# Altium integrated library NSC Interface.IntLib: 1288 symbols (part 2 of 45)
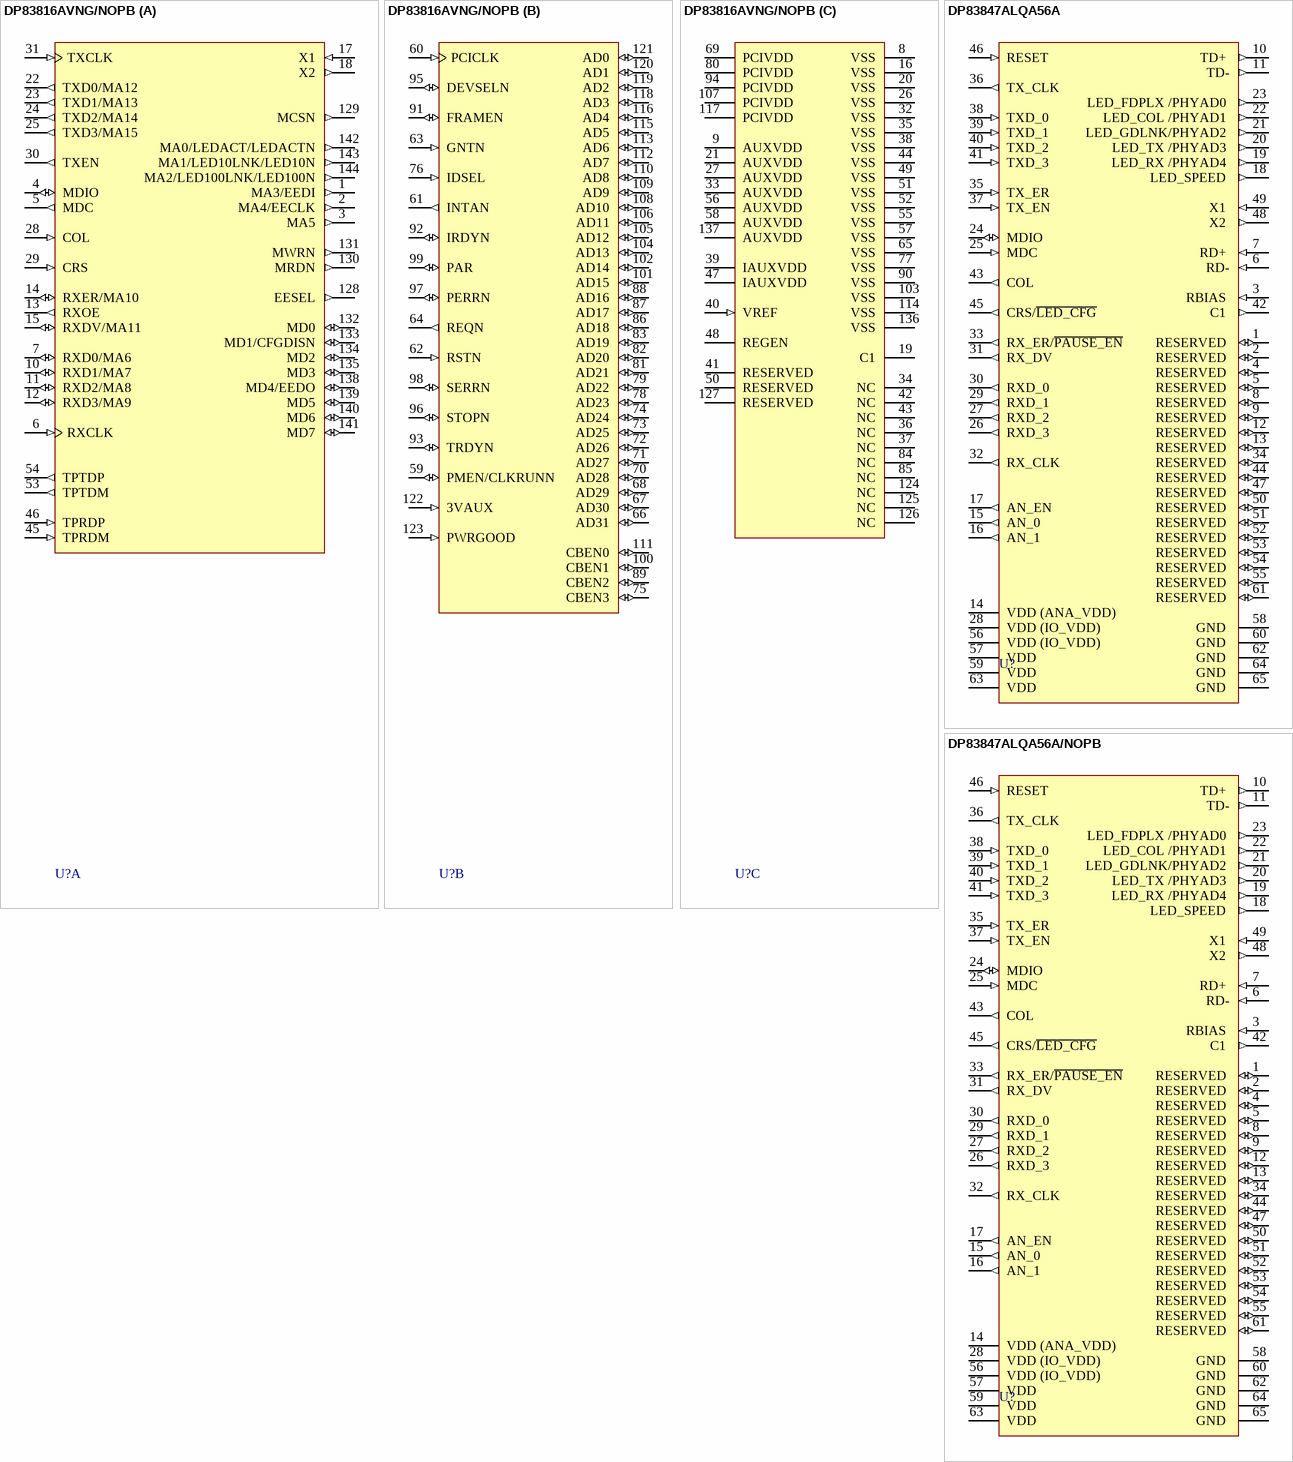
[diagram p113: symbols DP83816AVNG/NOPB to DP83847ALQA56A/NOPB]

## DP83816AVNG/NOPB
designator U?
10/100 Mb/s Integrated PCI Ethernet Media Access Controller and Physical Layer (MacPhyter-II), 144-pin LQFP, Pb-Free; PartNumber: DP83816AVNG/NOPB; Manufacturer: National Semiconductor; PackageTopMarking: NSUZXYYTTE#*DP83816AVNG; PowerWise: N; CompType: Interface IC; Published: 1-Mar-2010; DatasheetVersion: Sep-2005; PackageVersion: revF, Nov-1999; PackageReference: VNG144A; Publisher: Altium Limited; PackageDescription: LQFP, Jedec, Metric, 20 x 20 x 1.4mm, 144 Lead; Supplier 1: Digi-Key; Supplier Part Number 1: DP83816AVNG-ND; Supplier 2: Farnell; Supplier Part Number 2: 1496006; RoHS: Y; PinCount: 144; Code_JEDEC: MS-026-BFB; ComponentLink1Description: DP83816 Datasheet; ComponentLink1URL: http://www.national.com/ds/DP/DP83816.pdf; ComponentLink2Description: DP83816 Web Page; ComponentLink2URL: http://www.national.com/pf/DP/DP83816.html; ComponentLink3Description: VNG144A Package Page; ComponentLink3URL: http://www.national.com/packaging/folders/vng144a.html
footprint VNG144A_N (Thin QFP, 144-Leads, Body 20x20mm, Pitch 0.5mm, IPC Medium Density)
footprint VNG144A_L (Thin QFP, 144-Leads, Body 20x20mm, Pitch 0.5mm, IPC High Density)
footprint VNG144A_M (Thin QFP, 144-Leads, Body 20x20mm, Pitch 0.5mm, IPC Low Density)
part A pins: 1 MA3/EEDI (out), 2 MA4/EECLK (out), 3 MA5 (out), 4 MDIO (io), 5 MDC (out), 6 RXCLK (in), 7 RXD0/MA6 (io), 10 RXD1/MA7 (io), 11 RXD2/MA8 (io), 12 RXD3/MA9 (io), 13 RXOE (out), 14 RXER/MA10 (io), 15 RXDV/MA11 (io), 17 X1 (in), 18 X2 (out), 22 TXD0/MA12 (out), 23 TXD1/MA13 (out), 24 TXD2/MA14 (out), 25 TXD3/MA15 (out), 28 COL (in), 29 CRS (in), 30 TXEN (out), 31 TXCLK (in), 45 TPRDM (in), 46 TPRDP (in), 53 TPTDM (out), 54 TPTDP (out), 128 EESEL (out), 129 MCSN (out), 130 MRDN (out), 131 MWRN (out), 132 MD0 (io), 133 MD1/CFGDISN (io), 134 MD2 (io), 135 MD3 (io), 138 MD4/EEDO (io), 139 MD5 (io), 140 MD6 (io), 141 MD7 (io), 142 MA0/LEDACT/LEDACTN (out), 143 MA1/LED10LNK/LED10N (out), 144 MA2/LED100LNK/LED100N (out)
part B pins: 59 PMEN/CLKRUNN (io), 60 PCICLK (in), 61 INTAN (out), 62 RSTN (in), 63 GNTN (in), 64 REQN (out), 66 AD31 (io), 67 AD30 (io), 68 AD29 (io), 70 AD28 (io), 71 AD27 (io), 72 AD26 (io), 73 AD25 (io), 74 AD24 (io), 75 CBEN3 (io), 76 IDSEL (in), 78 AD23 (io), 79 AD22 (io), 81 AD21 (io), 82 AD20 (io), 83 AD19 (io), 86 AD18 (io), 87 AD17 (io), 88 AD16 (io), 89 CBEN2 (io), 91 FRAMEN (io), 92 IRDYN (io), 93 TRDYN (io), 95 DEVSELN (io), 96 STOPN (io), 97 PERRN (io), 98 SERRN (io), 99 PAR (io), 100 CBEN1 (io), 101 AD15 (io), 102 AD14 (io), 104 AD13 (io), 105 AD12 (io), 106 AD11 (io), 108 AD10 (io), 109 AD9 (io), 110 AD8 (io), 111 CBEN0 (io), 112 AD7 (io), 113 AD6 (io), 115 AD5 (io), 116 AD4 (io), 118 AD3 (io), 119 AD2 (io), 120 AD1 (io), 121 AD0 (io), 122 3VAUX (in), 123 PWRGOOD (in)
part C pins: 8 VSS (power), 9 AUXVDD (power), 16 VSS (power), 19 C1 (power), 20 VSS (power), 21 AUXVDD (power), 26 VSS (power), 27 AUXVDD (power), 32 VSS (power), 33 AUXVDD (power), 34 NC, 35 VSS (power), 36 NC, 37 NC, 38 VSS (power), 39 IAUXVDD (power), 40 VREF (in), 41 RESERVED, 42 NC, 43 NC, 44 VSS (power), 47 IAUXVDD (power), 48 REGEN, 49 VSS (power), 50 RESERVED, 51 VSS (power), 52 VSS (power), 55 VSS (power), 56 AUXVDD (power), 57 VSS (power), 58 AUXVDD (power), 65 VSS (power), 69 PCIVDD (power), 77 VSS (power), 80 PCIVDD (power), 84 NC, 85 NC, 90 VSS (power), 94 PCIVDD (power), 103 VSS (power), 107 PCIVDD (power), 114 VSS (power), 117 PCIVDD (power), 124 NC, 125 NC, 126 NC, 127 RESERVED, 136 VSS (power), 137 AUXVDD (power)

## DP83847ALQA56A
designator U?
DsPHYTER® II - Single 10/100 Ethernet Transceiver, 56-pin LLP; PartNumber: DP83847ALQA56A; Manufacturer: National Semiconductor; PackageTopMarking: NS*UZXYTTE#*83847; PowerWise: N; CompType: Interface IC; Published: 4-Dec-2008; DatasheetVersion: Feb-2002; PackageVersion: revD, Nov-2002; PackageReference: LQA56A; Publisher: Altium Limited; PackageDescription: LLP, Plastic, Quad, 9 x 9 x 0.75mm Body, 56 Lead, 0.5mm Pitch, Ground & Power Rings; Supplier 1: Farnell; Supplier Part Number 1: 1528404; Supplier 2: Farnell; Supplier Part Number 2: 7613696; RoHS: N; PinCount: 56; ComponentLink1Description: DP83847 Datasheet; ComponentLink1URL: http://www.national.com/ds/DP/DP83847.pdf; ComponentLink2Description: DP83847 Web Page; ComponentLink2URL: http://www.national.com/pf/DP/DP83847.html; ComponentLink3Description: LQA56A Package Page; ComponentLink3URL: http://www.national.com/packaging/folders/lqa56a.html
footprint LQA56A (PQFN, 56-Leads, Body 9x9mm, Pitch 0.5mm, NSC Recommended)
pins: 1 RESERVED  (io), 2 RESERVED  (io), 3 RBIAS  (in), 4 RESERVED  (io), 5 RESERVED  (io), 6 RD- (in), 7 RD+  (in), 8 RESERVED  (io), 9 RESERVED  (io), 10 TD+  (out), 11 TD- (out), 12 RESERVED  (io), 13 RESERVED  (io), 14 VDD (ANA_VDD)  (power), 15 AN_0  (out), 16 AN_1  (out), 17 AN_EN  (out), 18 LED_SPEED  (out), 19 LED_RX /PHYAD4  (out), 20 LED_TX /PHYAD3  (out), 21 LED_GDLNK/PHYAD2  (out), 22 LED_COL /PHYAD1  (out), 23 LED_FDPLX /PHYAD0  (out), 24 MDIO  (io), 25 MDC  (in), 26 RXD_3  (out), 27 RXD_2  (out), 28 VDD (IO_VDD)  (power), 29 RXD_1  (out), 30 RXD_0  (out), 31 RX_DV  (out), 32 RX_CLK  (out), 33 RX_ER/~{PAUSE_EN}  (out), 34 RESERVED  (io), 35 TX_ER  (in), 36 TX_CLK  (out), 37 TX_EN  (in), 38 TXD_0  (in), 39 TXD_1  (in), 40 TXD_2  (in), 41 TXD_3  (in), 42 C1  (out), 43 COL  (out), 44 RESERVED  (io), 45 CRS/~{LED_CFG}  (out), 46 RESET  (in), 47 RESERVED  (io), 48 X2  (out), 49 X1  (in), 50 RESERVED  (io), 51 RESERVED  (io), 52 RESERVED  (io), 53 RESERVED  (io), 54 RESERVED  (io), 55 RESERVED  (io), 56 VDD (IO_VDD)  (power), 57 VDD  (power), 58 GND  (power), 59 VDD  (power), 60 GND  (power), 61 RESERVED  (io), 62 GND  (power), 63 VDD  (power), 64 GND  (power), 65 GND  (power)

## DP83847ALQA56A/NOPB
designator U?
DsPHYTER® II - Single 10/100 Ethernet Transceiver, 56-pin LLP, Pb-Free; PartNumber: DP83847ALQA56A/NOPB; Manufacturer: National Semiconductor; PackageTopMarking: NS*UZXYTTE#*83847; PowerWise: N; CompType: Interface IC; Published: 1-Mar-2010; DatasheetVersion: Feb-2002; PackageVersion: revD, Nov-2002; PackageReference: LQA56A; Publisher: Altium Limited; PackageDescription: LLP, Plastic, Quad, 9 x 9 x 0.75mm Body, 56 Lead, 0.5mm Pitch, Ground & Power Rings; Supplier 1: Digi-Key; Supplier Part Number 1: DP83847ALQA56A-ND; Supplier 2: Farnell; Supplier Part Number 2: 1685782; RoHS: Y; PinCount: 56; ComponentLink1Description: DP83847 Datasheet; ComponentLink1URL: http://www.national.com/ds/DP/DP83847.pdf; ComponentLink2Description: DP83847 Web Page; ComponentLink2URL: http://www.national.com/pf/DP/DP83847.html; ComponentLink3Description: LQA56A Package Page; ComponentLink3URL: http://www.national.com/packaging/folders/lqa56a.html
footprint LQA56A (PQFN, 56-Leads, Body 9x9mm, Pitch 0.5mm, NSC Recommended)
pins: 1 RESERVED  (io), 2 RESERVED  (io), 3 RBIAS  (in), 4 RESERVED  (io), 5 RESERVED  (io), 6 RD- (in), 7 RD+  (in), 8 RESERVED  (io), 9 RESERVED  (io), 10 TD+  (out), 11 TD- (out), 12 RESERVED  (io), 13 RESERVED  (io), 14 VDD (ANA_VDD)  (power), 15 AN_0  (out), 16 AN_1  (out), 17 AN_EN  (out), 18 LED_SPEED  (out), 19 LED_RX /PHYAD4  (out), 20 LED_TX /PHYAD3  (out), 21 LED_GDLNK/PHYAD2  (out), 22 LED_COL /PHYAD1  (out), 23 LED_FDPLX /PHYAD0  (out), 24 MDIO  (io), 25 MDC  (in), 26 RXD_3  (out), 27 RXD_2  (out), 28 VDD (IO_VDD)  (power), 29 RXD_1  (out), 30 RXD_0  (out), 31 RX_DV  (out), 32 RX_CLK  (out), 33 RX_ER/~{PAUSE_EN}  (out), 34 RESERVED  (io), 35 TX_ER  (in), 36 TX_CLK  (out), 37 TX_EN  (in), 38 TXD_0  (in), 39 TXD_1  (in), 40 TXD_2  (in), 41 TXD_3  (in), 42 C1  (out), 43 COL  (out), 44 RESERVED  (io), 45 CRS/~{LED_CFG}  (out), 46 RESET  (in), 47 RESERVED  (io), 48 X2  (out), 49 X1  (in), 50 RESERVED  (io), 51 RESERVED  (io), 52 RESERVED  (io), 53 RESERVED  (io), 54 RESERVED  (io), 55 RESERVED  (io), 56 VDD (IO_VDD)  (power), 57 VDD  (power), 58 GND  (power), 59 VDD  (power), 60 GND  (power), 61 RESERVED  (io), 62 GND  (power), 63 VDD  (power), 64 GND  (power), 65 GND  (power)

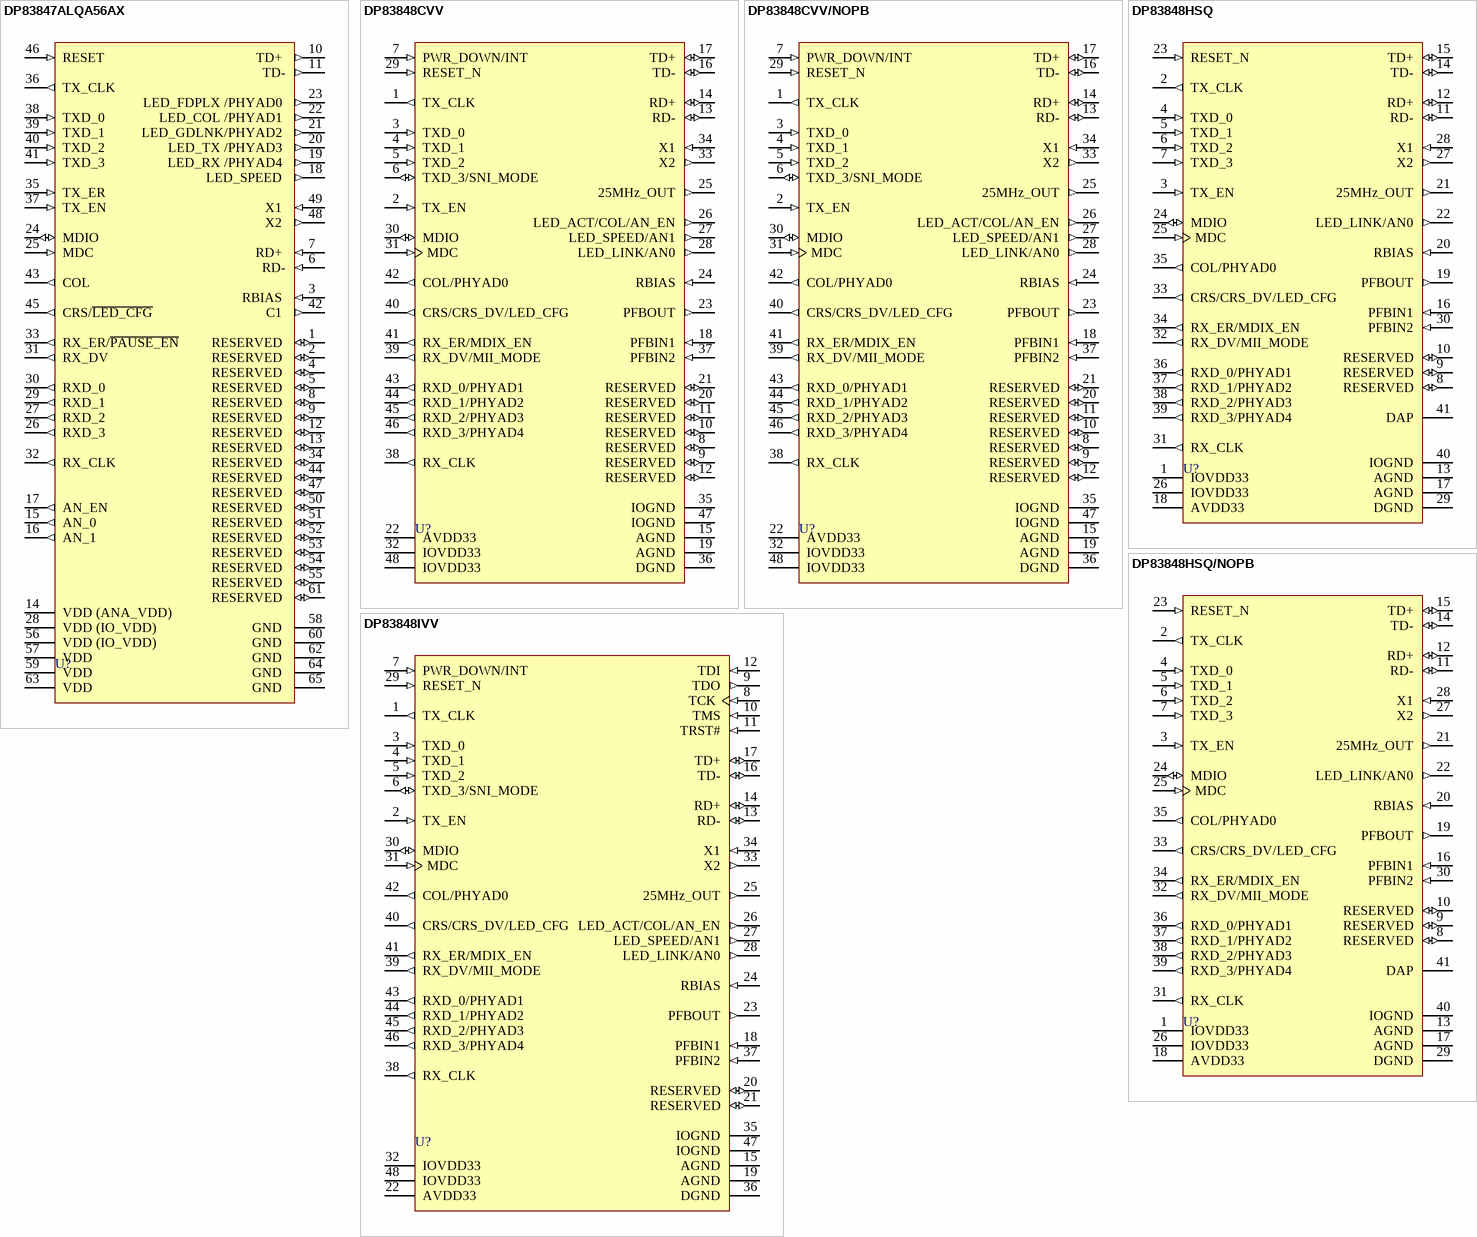
[diagram p4: symbols DP83847ALQA56AX to DP83848IVV]

## DP83847ALQA56AX
designator U?
DsPHYTER® II - Single 10/100 Ethernet Transceiver, 56-pin LLP; PartNumber: DP83847ALQA56AX; Manufacturer: National Semiconductor; PackageTopMarking: NS*UZXYTTE#*83847; PowerWise: N; CompType: Interface IC; Published: 1-Mar-2010; DatasheetVersion: Feb-2002; PackageVersion: revD, Nov-2002; PackageReference: LQA56A; Publisher: Altium Limited; PackageDescription: LLP, Plastic, Quad, 9 x 9 x 0.75mm Body, 56 Lead, 0.5mm Pitch, Ground & Power Rings; RoHS: N; PinCount: 56; ComponentLink1Description: DP83847 Datasheet; ComponentLink1URL: http://www.national.com/ds/DP/DP83847.pdf; ComponentLink2Description: DP83847 Web Page; ComponentLink2URL: http://www.national.com/pf/DP/DP83847.html; ComponentLink3Description: LQA56A Package Page; ComponentLink3URL: http://www.national.com/packaging/folders/lqa56a.html
footprint LQA56A (PQFN, 56-Leads, Body 9x9mm, Pitch 0.5mm, NSC Recommended)
pins: 1 RESERVED  (io), 2 RESERVED  (io), 3 RBIAS  (in), 4 RESERVED  (io), 5 RESERVED  (io), 6 RD- (in), 7 RD+  (in), 8 RESERVED  (io), 9 RESERVED  (io), 10 TD+  (out), 11 TD- (out), 12 RESERVED  (io), 13 RESERVED  (io), 14 VDD (ANA_VDD)  (power), 15 AN_0  (out), 16 AN_1  (out), 17 AN_EN  (out), 18 LED_SPEED  (out), 19 LED_RX /PHYAD4  (out), 20 LED_TX /PHYAD3  (out), 21 LED_GDLNK/PHYAD2  (out), 22 LED_COL /PHYAD1  (out), 23 LED_FDPLX /PHYAD0  (out), 24 MDIO  (io), 25 MDC  (in), 26 RXD_3  (out), 27 RXD_2  (out), 28 VDD (IO_VDD)  (power), 29 RXD_1  (out), 30 RXD_0  (out), 31 RX_DV  (out), 32 RX_CLK  (out), 33 RX_ER/~{PAUSE_EN}  (out), 34 RESERVED  (io), 35 TX_ER  (in), 36 TX_CLK  (out), 37 TX_EN  (in), 38 TXD_0  (in), 39 TXD_1  (in), 40 TXD_2  (in), 41 TXD_3  (in), 42 C1  (out), 43 COL  (out), 44 RESERVED  (io), 45 CRS/~{LED_CFG}  (out), 46 RESET  (in), 47 RESERVED  (io), 48 X2  (out), 49 X1  (in), 50 RESERVED  (io), 51 RESERVED  (io), 52 RESERVED  (io), 53 RESERVED  (io), 54 RESERVED  (io), 55 RESERVED  (io), 56 VDD (IO_VDD)  (power), 57 VDD  (power), 58 GND  (power), 59 VDD  (power), 60 GND  (power), 61 RESERVED  (io), 62 GND  (power), 63 VDD  (power), 64 GND  (power), 65 GND  (power)

## DP83848CVV
designator U?
PHYTER® Commercial Temperature Single Port 10/100 Mb/s Ethernet Physical Layer Transceiver, 48-pin LQFP; PartNumber: DP83848CVV; Manufacturer: National Semiconductor; PackageTopMarking: NSUZXYTT*DP83848VV*VBC; PowerWise: N; CompType: Interface IC; Published: 4-Dec-2008; DatasheetVersion: May-2008; PackageVersion: revE, May-2007; PackageReference: VBH48A; Publisher: Altium Limited; PackageDescription: LQFP, 7 x 7 x 1.4mm, 48 Lead, 0.5mm Pitch; Supplier 1: Farnell; Supplier Part Number 1: 1286816; Supplier 2: Farnell; Supplier Part Number 2: 1528379; RoHS: Y; PinCount: 48; ComponentLink1Description: DP83848C Datasheet; ComponentLink1URL: http://www.national.com/ds/DP/DP83848C.pdf; ComponentLink2Description: DP83848C Web Page; ComponentLink2URL: http://www.national.com/pf/DP/DP83848C.html; ComponentLink3Description: VBH48A Package Page; ComponentLink3URL: http://www.national.com/packaging/folders/vbh48a.html
footprint VBH48A_N (Thin QFP, 48-Leads, Body 7x7mm, Pitch 0.5mm, IPC Medium Density)
footprint VBH48A_L (Thin QFP, 48-Leads, Body 7x7mm, Pitch 0.5mm, IPC High Density)
footprint VBH48A_M (Thin QFP, 48-Leads, Body 7x7mm, Pitch 0.5mm, IPC Low Density)
pins: 1 TX_CLK (out), 2 TX_EN (in), 3 TXD_0 (in), 4 TXD_1 (in), 5 TXD_2 (in), 6 TXD_3/SNI_MODE (io), 7 PWR_DOWN/INT (in), 8 RESERVED (io), 9 RESERVED (io), 10 RESERVED (io), 11 RESERVED (io), 12 RESERVED (io), 13 RD- (io), 14 RD+ (io), 15 AGND (power), 16 TD- (io), 17 TD+ (io), 18 PFBIN1 (in), 19 AGND (power), 20 RESERVED (io), 21 RESERVED (io), 22 AVDD33 (power), 23 PFBOUT (out), 24 RBIAS (in), 25 25MHz_OUT (out), 26 LED_ACT/COL/AN_EN (out), 27 LED_SPEED/AN1 (out), 28 LED_LINK/AN0 (out), 29 RESET_N (in), 30 MDIO (io), 31 MDC (in), 32 IOVDD33 (power), 33 X2 (out), 34 X1 (in), 35 IOGND (power), 36 DGND (power), 37 PFBIN2 (in), 38 RX_CLK (out), 39 RX_DV/MII_MODE (out), 40 CRS/CRS_DV/LED_CFG (out), 41 RX_ER/MDIX_EN (out), 42 COL/PHYAD0 (out), 43 RXD_0/PHYAD1 (out), 44 RXD_1/PHYAD2 (out), 45 RXD_2/PHYAD3 (out), 46 RXD_3/PHYAD4 (out), 47 IOGND (power), 48 IOVDD33 (power)

## DP83848CVV/NOPB
designator U?
PHYTER® Commercial Temperature Single Port 10/100 Mb/s Ethernet Physical Layer Transceiver, 48-pin LQFP, Pb-Free; PartNumber: DP83848CVV/NOPB; Manufacturer: National Semiconductor; PackageTopMarking: NSUZXYTT*DP83848VV*VBC; PowerWise: N; CompType: Interface IC; Published: 1-Mar-2010; DatasheetVersion: May-2008; PackageVersion: revE, May-2007; PackageReference: VBH48A; Publisher: Altium Limited; PackageDescription: LQFP, 7 x 7 x 1.4mm, 48 Lead, 0.5mm Pitch; Supplier 1: Digi-Key; Supplier Part Number 1: DP83848CVV-ND; Supplier 2: Farnell; Supplier Part Number 2: 1685784; RoHS: Y; PinCount: 48; ComponentLink1Description: DP83848C Datasheet; ComponentLink1URL: http://www.national.com/ds/DP/DP83848C.pdf; ComponentLink2Description: DP83848C Web Page; ComponentLink2URL: http://www.national.com/pf/DP/DP83848C.html; ComponentLink3Description: VBH48A Package Page; ComponentLink3URL: http://www.national.com/packaging/folders/vbh48a.html
footprint VBH48A_N (Thin QFP, 48-Leads, Body 7x7mm, Pitch 0.5mm, IPC Medium Density)
footprint VBH48A_L (Thin QFP, 48-Leads, Body 7x7mm, Pitch 0.5mm, IPC High Density)
footprint VBH48A_M (Thin QFP, 48-Leads, Body 7x7mm, Pitch 0.5mm, IPC Low Density)
pins: 1 TX_CLK (out), 2 TX_EN (in), 3 TXD_0 (in), 4 TXD_1 (in), 5 TXD_2 (in), 6 TXD_3/SNI_MODE (io), 7 PWR_DOWN/INT (in), 8 RESERVED (io), 9 RESERVED (io), 10 RESERVED (io), 11 RESERVED (io), 12 RESERVED (io), 13 RD- (io), 14 RD+ (io), 15 AGND (power), 16 TD- (io), 17 TD+ (io), 18 PFBIN1 (in), 19 AGND (power), 20 RESERVED (io), 21 RESERVED (io), 22 AVDD33 (power), 23 PFBOUT (out), 24 RBIAS (in), 25 25MHz_OUT (out), 26 LED_ACT/COL/AN_EN (out), 27 LED_SPEED/AN1 (out), 28 LED_LINK/AN0 (out), 29 RESET_N (in), 30 MDIO (io), 31 MDC (in), 32 IOVDD33 (power), 33 X2 (out), 34 X1 (in), 35 IOGND (power), 36 DGND (power), 37 PFBIN2 (in), 38 RX_CLK (out), 39 RX_DV/MII_MODE (out), 40 CRS/CRS_DV/LED_CFG (out), 41 RX_ER/MDIX_EN (out), 42 COL/PHYAD0 (out), 43 RXD_0/PHYAD1 (out), 44 RXD_1/PHYAD2 (out), 45 RXD_2/PHYAD3 (out), 46 RXD_3/PHYAD4 (out), 47 IOGND (power), 48 IOVDD33 (power)

## DP83848HSQ
designator U?
PHYTER® Mini - Extreme Temperature Single 10/100 Ethernet Transceiver, 40-pin LLP; PartNumber: DP83848HSQ; Manufacturer: National Semiconductor; PackageTopMarking: NS*UZXYTT*83848HSQ; PowerWise: N; CompType: Interface IC; Published: 4-Dec-2008; DatasheetVersion: May-2008; PackageVersion: revA, Mar-2004; PackageReference: SQA40B; Publisher: Altium Limited; PackageDescription: LLP, Quad, 6 x 6 x 0.8mm, 40 Lead, Small DAP, 0.5mm Pitch, No Pullback; Supplier 1: Farnell; Supplier Part Number 1: 1602444; RoHS: Y; PinCount: 40; ComponentLink1Description: DP83848H Datasheet; ComponentLink1URL: http://www.national.com/ds/DP/DP83848H.pdf; ComponentLink2Description: DP83848H Web Page; ComponentLink2URL: http://www.national.com/pf/DP/DP83848H.html; ComponentLink3Description: SQA40B Package Page; ComponentLink3URL: http://www.national.com/packaging/folders/sqa40b.html
footprint SQA40B (QFN, 40-Leads, Body 6x6mm, Pitch 0.5mm, NSC Recommended)
pins: 1 IOVDD33 (power), 2 TX_CLK (out), 3 TX_EN (in), 4 TXD_0 (in), 5 TXD_1 (in), 6 TXD_2 (in), 7 TXD_3 (in), 8 RESERVED (io), 9 RESERVED (io), 10 RESERVED (io), 11 RD- (io), 12 RD+ (io), 13 AGND (power), 14 TD- (io), 15 TD+ (io), 16 PFBIN1 (in), 17 AGND (power), 18 AVDD33 (power), 19 PFBOUT (out), 20 RBIAS (in), 21 25MHz_OUT (out), 22 LED_LINK/AN0 (out), 23 RESET_N (in), 24 MDIO (io), 25 MDC (in), 26 IOVDD33 (power), 27 X2 (out), 28 X1 (in), 29 DGND (power), 30 PFBIN2 (in), 31 RX_CLK (out), 32 RX_DV/MII_MODE (out), 33 CRS/CRS_DV/LED_CFG (out), 34 RX_ER/MDIX_EN (out), 35 COL/PHYAD0 (out), 36 RXD_0/PHYAD1 (out), 37 RXD_1/PHYAD2 (out), 38 RXD_2/PHYAD3 (out), 39 RXD_3/PHYAD4 (out), 40 IOGND (power), 41 DAP

## DP83848HSQ/NOPB
designator U?
PHYTER® Mini - Extreme Temperature Single 10/100 Ethernet Transceiver, 40-pin LLP, Pb-Free; PartNumber: DP83848HSQ/NOPB; Manufacturer: National Semiconductor; PackageTopMarking: NS*UZXYTTE#*83848HSQ; PowerWise: N; CompType: Interface IC; Published: 1-Mar-2010; DatasheetVersion: May-2008; PackageVersion: revA, Mar-2004; PackageReference: SQA40B; Publisher: Altium Limited; PackageDescription: LLP, Quad, 6 x 6 x 0.8mm, 40 Lead, Small DAP, 0.5mm Pitch, No Pullback; Supplier 1: Digi-Key; Supplier Part Number 1: DP83848HSQTR-ND; Supplier 2: Digi-Key; Supplier Part Number 2: DP83848HSQCT-ND; RoHS: Y; PinCount: 40; ComponentLink1Description: DP83848H Datasheet; ComponentLink1URL: http://www.national.com/ds/DP/DP83848H.pdf; ComponentLink2Description: DP83848H Web Page; ComponentLink2URL: http://www.national.com/pf/DP/DP83848H.html; ComponentLink3Description: SQA40A Package Page; ComponentLink3URL: http://www.national.com/packaging/folders/sqa40a.html
footprint SQA40B (QFN, 40-Leads, Body 6x6mm, Pitch 0.5mm, NSC Recommended)
pins: 1 IOVDD33 (power), 2 TX_CLK (out), 3 TX_EN (in), 4 TXD_0 (in), 5 TXD_1 (in), 6 TXD_2 (in), 7 TXD_3 (in), 8 RESERVED (io), 9 RESERVED (io), 10 RESERVED (io), 11 RD- (io), 12 RD+ (io), 13 AGND (power), 14 TD- (io), 15 TD+ (io), 16 PFBIN1 (in), 17 AGND (power), 18 AVDD33 (power), 19 PFBOUT (out), 20 RBIAS (in), 21 25MHz_OUT (out), 22 LED_LINK/AN0 (out), 23 RESET_N (in), 24 MDIO (io), 25 MDC (in), 26 IOVDD33 (power), 27 X2 (out), 28 X1 (in), 29 DGND (power), 30 PFBIN2 (in), 31 RX_CLK (out), 32 RX_DV/MII_MODE (out), 33 CRS/CRS_DV/LED_CFG (out), 34 RX_ER/MDIX_EN (out), 35 COL/PHYAD0 (out), 36 RXD_0/PHYAD1 (out), 37 RXD_1/PHYAD2 (out), 38 RXD_2/PHYAD3 (out), 39 RXD_3/PHYAD4 (out), 40 IOGND (power), 41 DAP

## DP83848IVV
designator U?
PHYTER® Industrial Temperature Single Port 10/100 Mb/s Ethernet Physical Layer Transceiver, 48-pin LQFP; PartNumber: DP83848IVV; Manufacturer: National Semiconductor; PackageTopMarking: NSUZXYTT*DP83848VV*VBI; PowerWise: N; CompType: Interface IC; Published: 4-Dec-2008; DatasheetVersion: May-2008; PackageVersion: revE, May-2007; PackageReference: VBH48A; Publisher: Altium Limited; PackageDescription: LQFP, 7 x 7 x 1.4mm, 48 Lead, 0.5mm Pitch; Supplier 1: Farnell; Supplier Part Number 1: 1286817; Supplier 2: Farnell; Supplier Part Number 2: 1528380; RoHS: Y; PinCount: 48; ComponentLink1Description: DP83848I Datasheet; ComponentLink1URL: http://www.national.com/ds/DP/DP83848I.pdf; ComponentLink2Description: DP83848I Web Page; ComponentLink2URL: http://www.national.com/pf/DP/DP83848I.html; ComponentLink3Description: VBH48A Package Page; ComponentLink3URL: http://www.national.com/packaging/folders/vbh48a.html
footprint VBH48A_N (Thin QFP, 48-Leads, Body 7x7mm, Pitch 0.5mm, IPC Medium Density)
footprint VBH48A_L (Thin QFP, 48-Leads, Body 7x7mm, Pitch 0.5mm, IPC High Density)
footprint VBH48A_M (Thin QFP, 48-Leads, Body 7x7mm, Pitch 0.5mm, IPC Low Density)
pins: 1 TX_CLK (out), 2 TX_EN (in), 3 TXD_0 (in), 4 TXD_1 (in), 5 TXD_2 (in), 6 TXD_3/SNI_MODE (io), 7 PWR_DOWN/INT (in), 8 TCK (in), 9 TDO (out), 10 TMS (in), 11 TRST# (in), 12 TDI (in), 13 RD- (io), 14 RD+ (io), 15 AGND (power), 16 TD- (io), 17 TD+ (io), 18 PFBIN1 (in), 19 AGND (power), 20 RESERVED (io), 21 RESERVED (io), 22 AVDD33 (power), 23 PFBOUT (out), 24 RBIAS (in), 25 25MHz_OUT (out), 26 LED_ACT/COL/AN_EN (out), 27 LED_SPEED/AN1 (out), 28 LED_LINK/AN0 (out), 29 RESET_N (in), 30 MDIO (io), 31 MDC (in), 32 IOVDD33 (power), 33 X2 (out), 34 X1 (in), 35 IOGND (power), 36 DGND (power), 37 PFBIN2 (in), 38 RX_CLK (out), 39 RX_DV/MII_MODE (out), 40 CRS/CRS_DV/LED_CFG (out), 41 RX_ER/MDIX_EN (out), 42 COL/PHYAD0 (out), 43 RXD_0/PHYAD1 (out), 44 RXD_1/PHYAD2 (out), 45 RXD_2/PHYAD3 (out), 46 RXD_3/PHYAD4 (out), 47 IOGND (power), 48 IOVDD33 (power)

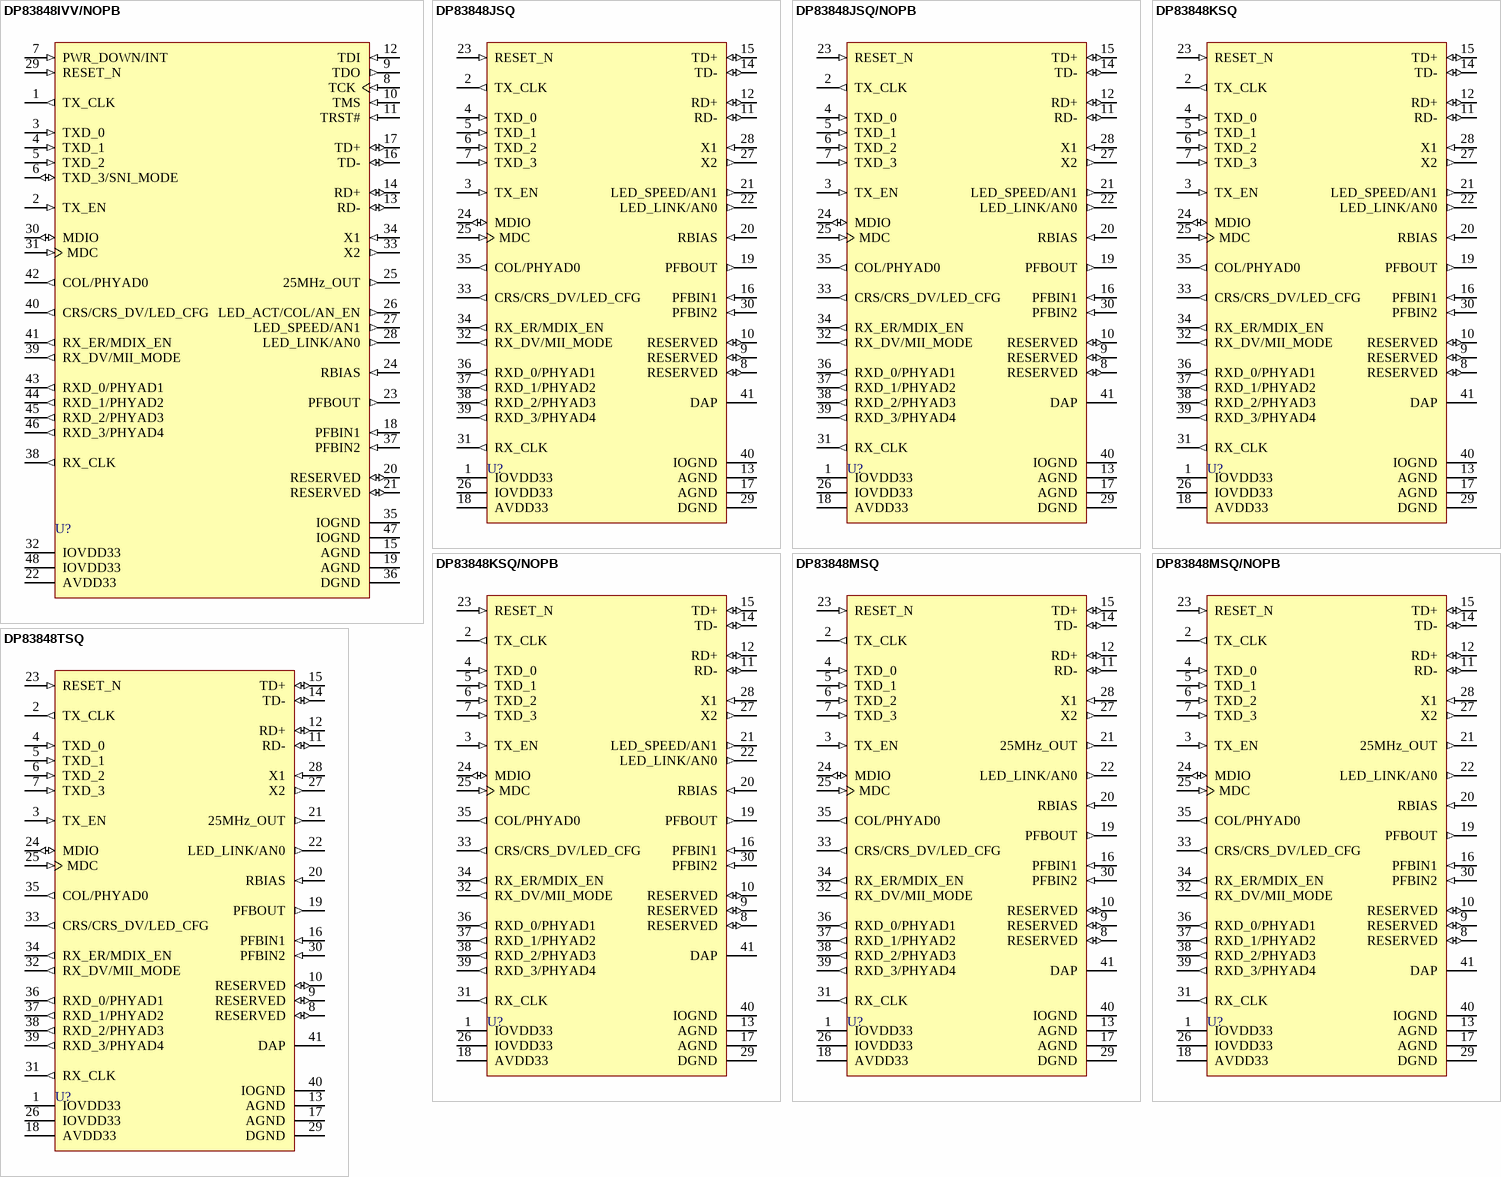
[diagram p5: symbols DP83848IVV/NOPB to DP83848TSQ]

## DP83848IVV/NOPB
designator U?
PHYTER® Industrial Temperature Single Port 10/100 Mb/s Ethernet Physical Layer Transceiver, 48-pin LQFP, Pb-Free; PartNumber: DP83848IVV/NOPB; Manufacturer: National Semiconductor; PackageTopMarking: NSUZXYTT*DP83848VV*VBI; PowerWise: N; CompType: Interface IC; Published: 1-Mar-2010; DatasheetVersion: May-2008; PackageVersion: revE, May-2007; PackageReference: VBH48A; Publisher: Altium Limited; PackageDescription: LQFP, 7 x 7 x 1.4mm, 48 Lead, 0.5mm Pitch; Supplier 1: Digi-Key; Supplier Part Number 1: DP83848IVV-ND; Supplier 2: Farnell; Supplier Part Number 2: 1654352; RoHS: Y; PinCount: 48; ComponentLink1Description: DP83848I Datasheet; ComponentLink1URL: http://www.national.com/ds/DP/DP83848I.pdf; ComponentLink2Description: DP83848I Web Page; ComponentLink2URL: http://www.national.com/pf/DP/DP83848I.html; ComponentLink3Description: VBH48A Package Page; ComponentLink3URL: http://www.national.com/packaging/folders/vbh48a.html
footprint VBH48A_N (Thin QFP, 48-Leads, Body 7x7mm, Pitch 0.5mm, IPC Medium Density)
footprint VBH48A_L (Thin QFP, 48-Leads, Body 7x7mm, Pitch 0.5mm, IPC High Density)
footprint VBH48A_M (Thin QFP, 48-Leads, Body 7x7mm, Pitch 0.5mm, IPC Low Density)
pins: 1 TX_CLK (out), 2 TX_EN (in), 3 TXD_0 (in), 4 TXD_1 (in), 5 TXD_2 (in), 6 TXD_3/SNI_MODE (io), 7 PWR_DOWN/INT (in), 8 TCK (in), 9 TDO (out), 10 TMS (in), 11 TRST# (in), 12 TDI (in), 13 RD- (io), 14 RD+ (io), 15 AGND (power), 16 TD- (io), 17 TD+ (io), 18 PFBIN1 (in), 19 AGND (power), 20 RESERVED (io), 21 RESERVED (io), 22 AVDD33 (power), 23 PFBOUT (out), 24 RBIAS (in), 25 25MHz_OUT (out), 26 LED_ACT/COL/AN_EN (out), 27 LED_SPEED/AN1 (out), 28 LED_LINK/AN0 (out), 29 RESET_N (in), 30 MDIO (io), 31 MDC (in), 32 IOVDD33 (power), 33 X2 (out), 34 X1 (in), 35 IOGND (power), 36 DGND (power), 37 PFBIN2 (in), 38 RX_CLK (out), 39 RX_DV/MII_MODE (out), 40 CRS/CRS_DV/LED_CFG (out), 41 RX_ER/MDIX_EN (out), 42 COL/PHYAD0 (out), 43 RXD_0/PHYAD1 (out), 44 RXD_1/PHYAD2 (out), 45 RXD_2/PHYAD3 (out), 46 RXD_3/PHYAD4 (out), 47 IOGND (power), 48 IOVDD33 (power)

## DP83848JSQ
designator U?
PHYTER® Mini LS Commercial Temperature Single Port 10/100 Mb/s Ethernet Transceiver, 40-pin LLP; PartNumber: DP83848JSQ; Manufacturer: National Semiconductor; PackageTopMarking: NS*UZXYTT*83848JSQ; PowerWise: N; CompType: Interface IC; Published: 4-Dec-2008; DatasheetVersion: May-2008; PackageVersion: revA, Mar-2004; PackageReference: SQA40B; Publisher: Altium Limited; PackageDescription: LLP, Quad, 6 x 6 x 0.8mm, 40 Lead, Small DAP, 0.5mm Pitch, No Pullback; RoHS: Y; PinCount: 40; ComponentLink1Description: DP83848J Datasheet; ComponentLink1URL: http://www.national.com/ds/DP/DP83848J.pdf; ComponentLink2Description: DP83848J Web Page; ComponentLink2URL: http://www.national.com/pf/DP/DP83848J.html; ComponentLink3Description: SQA40B Package Page; ComponentLink3URL: http://www.national.com/packaging/folders/sqa40b.html
footprint SQA40B (QFN, 40-Leads, Body 6x6mm, Pitch 0.5mm, NSC Recommended)
pins: 1 IOVDD33 (power), 2 TX_CLK (out), 3 TX_EN (in), 4 TXD_0 (in), 5 TXD_1 (in), 6 TXD_2 (in), 7 TXD_3 (in), 8 RESERVED (io), 9 RESERVED (io), 10 RESERVED (io), 11 RD- (io), 12 RD+ (io), 13 AGND (power), 14 TD- (io), 15 TD+ (io), 16 PFBIN1 (in), 17 AGND (power), 18 AVDD33 (power), 19 PFBOUT (out), 20 RBIAS (in), 21 LED_SPEED/AN1 (out), 22 LED_LINK/AN0 (out), 23 RESET_N (in), 24 MDIO (io), 25 MDC (in), 26 IOVDD33 (power), 27 X2 (out), 28 X1 (in), 29 DGND (power), 30 PFBIN2 (in), 31 RX_CLK (out), 32 RX_DV/MII_MODE (out), 33 CRS/CRS_DV/LED_CFG (out), 34 RX_ER/MDIX_EN (out), 35 COL/PHYAD0 (out), 36 RXD_0/PHYAD1 (out), 37 RXD_1/PHYAD2 (out), 38 RXD_2/PHYAD3 (out), 39 RXD_3/PHYAD4 (out), 40 IOGND (power), 41 DAP

## DP83848JSQ/NOPB
designator U?
PHYTER® Mini LS Commercial Temperature Single Port 10/100 Mb/s Ethernet Transceiver, 40-pin LLP, Pb-Free; PartNumber: DP83848JSQ/NOPB; Manufacturer: National Semiconductor; PackageTopMarking: NS*UZXYTTE#*83848JSQ; PowerWise: N; CompType: Interface IC; Published: 1-Mar-2010; DatasheetVersion: May-2008; PackageVersion: revA, Mar-2004; PackageReference: SQA40B; Publisher: Altium Limited; PackageDescription: LLP, Quad, 6 x 6 x 0.8mm, 40 Lead, Small DAP, 0.5mm Pitch, No Pullback; Supplier 1: Digi-Key; Supplier Part Number 1: DP83848JSQTR-ND; Supplier 2: Digi-Key; Supplier Part Number 2: DP83848JSQCT-ND; Supplier 3: Digi-Key; Supplier Part Number 3: DP83848JSQDKR-ND; Supplier 4: Farnell; Supplier Part Number 4: 1685522; RoHS: Y; PinCount: 40; ComponentLink1Description: DP83848J Datasheet; ComponentLink1URL: http://www.national.com/ds/DP/DP83848J.pdf; ComponentLink2Description: DP83848J Web Page; ComponentLink2URL: http://www.national.com/pf/DP/DP83848J.html; ComponentLink3Description: SQA40A Package Page; ComponentLink3URL: http://www.national.com/packaging/folders/sqa40a.html
footprint SQA40B (QFN, 40-Leads, Body 6x6mm, Pitch 0.5mm, NSC Recommended)
pins: 1 IOVDD33 (power), 2 TX_CLK (out), 3 TX_EN (in), 4 TXD_0 (in), 5 TXD_1 (in), 6 TXD_2 (in), 7 TXD_3 (in), 8 RESERVED (io), 9 RESERVED (io), 10 RESERVED (io), 11 RD- (io), 12 RD+ (io), 13 AGND (power), 14 TD- (io), 15 TD+ (io), 16 PFBIN1 (in), 17 AGND (power), 18 AVDD33 (power), 19 PFBOUT (out), 20 RBIAS (in), 21 LED_SPEED/AN1 (out), 22 LED_LINK/AN0 (out), 23 RESET_N (in), 24 MDIO (io), 25 MDC (in), 26 IOVDD33 (power), 27 X2 (out), 28 X1 (in), 29 DGND (power), 30 PFBIN2 (in), 31 RX_CLK (out), 32 RX_DV/MII_MODE (out), 33 CRS/CRS_DV/LED_CFG (out), 34 RX_ER/MDIX_EN (out), 35 COL/PHYAD0 (out), 36 RXD_0/PHYAD1 (out), 37 RXD_1/PHYAD2 (out), 38 RXD_2/PHYAD3 (out), 39 RXD_3/PHYAD4 (out), 40 IOGND (power), 41 DAP

## DP83848KSQ
designator U?
PHYTER® Mini LS Industrial Temperature Single Port 10/100 Mb/s Ethernet Transceiver, 40-pin LLP; PartNumber: DP83848KSQ; Manufacturer: National Semiconductor; PackageTopMarking: NS*UZXYTT*83848KSQ; PowerWise: N; CompType: Interface IC; Published: 4-Dec-2008; DatasheetVersion: May-2008; PackageVersion: revA, Mar-2004; PackageReference: SQA40B; Publisher: Altium Limited; PackageDescription: LLP, Quad, 6 x 6 x 0.8mm, 40 Lead, Small DAP, 0.5mm Pitch, No Pullback; RoHS: Y; PinCount: 40; ComponentLink1Description: DP83848K Datasheet; ComponentLink1URL: http://www.national.com/ds/DP/DP83848K.pdf; ComponentLink2Description: DP83848K Web Page; ComponentLink2URL: http://www.national.com/pf/DP/DP83848K.html; ComponentLink3Description: SQA40B Package Page; ComponentLink3URL: http://www.national.com/packaging/folders/sqa40b.html
footprint SQA40B (QFN, 40-Leads, Body 6x6mm, Pitch 0.5mm, NSC Recommended)
pins: 1 IOVDD33 (power), 2 TX_CLK (out), 3 TX_EN (in), 4 TXD_0 (in), 5 TXD_1 (in), 6 TXD_2 (in), 7 TXD_3 (in), 8 RESERVED (io), 9 RESERVED (io), 10 RESERVED (io), 11 RD- (io), 12 RD+ (io), 13 AGND (power), 14 TD- (io), 15 TD+ (io), 16 PFBIN1 (in), 17 AGND (power), 18 AVDD33 (power), 19 PFBOUT (out), 20 RBIAS (in), 21 LED_SPEED/AN1 (out), 22 LED_LINK/AN0 (out), 23 RESET_N (in), 24 MDIO (io), 25 MDC (in), 26 IOVDD33 (power), 27 X2 (out), 28 X1 (in), 29 DGND (power), 30 PFBIN2 (in), 31 RX_CLK (out), 32 RX_DV/MII_MODE (out), 33 CRS/CRS_DV/LED_CFG (out), 34 RX_ER/MDIX_EN (out), 35 COL/PHYAD0 (out), 36 RXD_0/PHYAD1 (out), 37 RXD_1/PHYAD2 (out), 38 RXD_2/PHYAD3 (out), 39 RXD_3/PHYAD4 (out), 40 IOGND (power), 41 DAP

## DP83848KSQ/NOPB
designator U?
PHYTER® Mini LS Industrial Temperature Single Port 10/100 Mb/s Ethernet Transceiver, 40-pin LLP, Pb-Free; PartNumber: DP83848KSQ/NOPB; Manufacturer: National Semiconductor; PackageTopMarking: NS*UZXYTTE#*83848KSQ; PowerWise: N; CompType: Interface IC; Published: 1-Mar-2010; DatasheetVersion: May-2008; PackageVersion: revA, Mar-2004; PackageReference: SQA40B; Publisher: Altium Limited; PackageDescription: LLP, Quad, 6 x 6 x 0.8mm, 40 Lead, Small DAP, 0.5mm Pitch, No Pullback; Supplier 1: Digi-Key; Supplier Part Number 1: DP83848KSQTR-ND; Supplier 2: Digi-Key; Supplier Part Number 2: DP83848KSQCT-ND; Supplier 3: Digi-Key; Supplier Part Number 3: DP83848KSQDKR-ND; Supplier 4: Farnell; Supplier Part Number 4: 1685523; RoHS: Y; PinCount: 40; ComponentLink1Description: DP83848K Datasheet; ComponentLink1URL: http://www.national.com/ds/DP/DP83848K.pdf; ComponentLink2Description: DP83848K Web Page; ComponentLink2URL: http://www.national.com/pf/DP/DP83848K.html; ComponentLink3Description: SQA40A Package Page; ComponentLink3URL: http://www.national.com/packaging/folders/sqa40a.html
footprint SQA40B (QFN, 40-Leads, Body 6x6mm, Pitch 0.5mm, NSC Recommended)
pins: 1 IOVDD33 (power), 2 TX_CLK (out), 3 TX_EN (in), 4 TXD_0 (in), 5 TXD_1 (in), 6 TXD_2 (in), 7 TXD_3 (in), 8 RESERVED (io), 9 RESERVED (io), 10 RESERVED (io), 11 RD- (io), 12 RD+ (io), 13 AGND (power), 14 TD- (io), 15 TD+ (io), 16 PFBIN1 (in), 17 AGND (power), 18 AVDD33 (power), 19 PFBOUT (out), 20 RBIAS (in), 21 LED_SPEED/AN1 (out), 22 LED_LINK/AN0 (out), 23 RESET_N (in), 24 MDIO (io), 25 MDC (in), 26 IOVDD33 (power), 27 X2 (out), 28 X1 (in), 29 DGND (power), 30 PFBIN2 (in), 31 RX_CLK (out), 32 RX_DV/MII_MODE (out), 33 CRS/CRS_DV/LED_CFG (out), 34 RX_ER/MDIX_EN (out), 35 COL/PHYAD0 (out), 36 RXD_0/PHYAD1 (out), 37 RXD_1/PHYAD2 (out), 38 RXD_2/PHYAD3 (out), 39 RXD_3/PHYAD4 (out), 40 IOGND (power), 41 DAP

## DP83848MSQ
designator U?
PHYTER® Mini - Commercial Temperature Single 10/100 Ethernet Transceiver, 40-pin LLP; PartNumber: DP83848MSQ; Manufacturer: National Semiconductor; PackageTopMarking: NS*UZXYTT*83848MSQ; PowerWise: N; CompType: Interface IC; Published: 4-Dec-2008; DatasheetVersion: May-2008; PackageVersion: revA, Mar-2004; PackageReference: SQA40B; Publisher: Altium Limited; PackageDescription: LLP, Quad, 6 x 6 x 0.8mm, 40 Lead, Small DAP, 0.5mm Pitch, No Pullback; RoHS: Y; PinCount: 40; ComponentLink1Description: DP83848M Datasheet; ComponentLink1URL: http://www.national.com/ds/DP/DP83848M.pdf; ComponentLink2Description: DP83848M Web Page; ComponentLink2URL: http://www.national.com/pf/DP/DP83848M.html; ComponentLink3Description: SQA40B Package Page; ComponentLink3URL: http://www.national.com/packaging/folders/sqa40b.html
footprint SQA40B (QFN, 40-Leads, Body 6x6mm, Pitch 0.5mm, NSC Recommended)
pins: 1 IOVDD33 (power), 2 TX_CLK (out), 3 TX_EN (in), 4 TXD_0 (in), 5 TXD_1 (in), 6 TXD_2 (in), 7 TXD_3 (in), 8 RESERVED (io), 9 RESERVED (io), 10 RESERVED (io), 11 RD- (io), 12 RD+ (io), 13 AGND (power), 14 TD- (io), 15 TD+ (io), 16 PFBIN1 (in), 17 AGND (power), 18 AVDD33 (power), 19 PFBOUT (out), 20 RBIAS (in), 21 25MHz_OUT (out), 22 LED_LINK/AN0 (out), 23 RESET_N (in), 24 MDIO (io), 25 MDC (in), 26 IOVDD33 (power), 27 X2 (out), 28 X1 (in), 29 DGND (power), 30 PFBIN2 (in), 31 RX_CLK (out), 32 RX_DV/MII_MODE (out), 33 CRS/CRS_DV/LED_CFG (out), 34 RX_ER/MDIX_EN (out), 35 COL/PHYAD0 (out), 36 RXD_0/PHYAD1 (out), 37 RXD_1/PHYAD2 (out), 38 RXD_2/PHYAD3 (out), 39 RXD_3/PHYAD4 (out), 40 IOGND (power), 41 DAP

## DP83848MSQ/NOPB
designator U?
PHYTER® Mini - Commercial Temperature Single 10/100 Ethernet Transceiver, 40-pin LLP, Pb-Free; PartNumber: DP83848MSQ/NOPB; Manufacturer: National Semiconductor; PackageTopMarking: NS*UZXYTTE#*83848MSQ; PowerWise: N; CompType: Interface IC; Published: 1-Mar-2010; DatasheetVersion: May-2008; PackageVersion: revA, Mar-2004; PackageReference: SQA40B; Publisher: Altium Limited; PackageDescription: LLP, Quad, 6 x 6 x 0.8mm, 40 Lead, Small DAP, 0.5mm Pitch, No Pullback; Supplier 1: Digi-Key; Supplier Part Number 1: DP83848MSQTR-ND; Supplier 2: Digi-Key; Supplier Part Number 2: DP83848MSQCT-ND; Supplier 3: Digi-Key; Supplier Part Number 3: DP83848MSQDKR-ND; Supplier 4: Farnell; Supplier Part Number 4: 1602446; Supplier 5: Farnell; Supplier Part Number 5: 1624559; RoHS: Y; PinCount: 40; ComponentLink1Description: DP83848M Datasheet; ComponentLink1URL: http://www.national.com/ds/DP/DP83848M.pdf; ComponentLink2Description: DP83848M Web Page; ComponentLink2URL: http://www.national.com/pf/DP/DP83848M.html; ComponentLink3Description: SQA40A Package Page; ComponentLink3URL: http://www.national.com/packaging/folders/sqa40a.html
footprint SQA40B (QFN, 40-Leads, Body 6x6mm, Pitch 0.5mm, NSC Recommended)
pins: 1 IOVDD33 (power), 2 TX_CLK (out), 3 TX_EN (in), 4 TXD_0 (in), 5 TXD_1 (in), 6 TXD_2 (in), 7 TXD_3 (in), 8 RESERVED (io), 9 RESERVED (io), 10 RESERVED (io), 11 RD- (io), 12 RD+ (io), 13 AGND (power), 14 TD- (io), 15 TD+ (io), 16 PFBIN1 (in), 17 AGND (power), 18 AVDD33 (power), 19 PFBOUT (out), 20 RBIAS (in), 21 25MHz_OUT (out), 22 LED_LINK/AN0 (out), 23 RESET_N (in), 24 MDIO (io), 25 MDC (in), 26 IOVDD33 (power), 27 X2 (out), 28 X1 (in), 29 DGND (power), 30 PFBIN2 (in), 31 RX_CLK (out), 32 RX_DV/MII_MODE (out), 33 CRS/CRS_DV/LED_CFG (out), 34 RX_ER/MDIX_EN (out), 35 COL/PHYAD0 (out), 36 RXD_0/PHYAD1 (out), 37 RXD_1/PHYAD2 (out), 38 RXD_2/PHYAD3 (out), 39 RXD_3/PHYAD4 (out), 40 IOGND (power), 41 DAP

## DP83848TSQ
designator U?
PHYTER® Mini - Industrial Temperature Single 10/100 Ethernet Transceiver, 40-pin LLP; PartNumber: DP83848TSQ; Manufacturer: National Semiconductor; PackageTopMarking: NS*UZXYTT*83848TSQ; PowerWise: N; CompType: Interface IC; Published: 4-Dec-2008; DatasheetVersion: May-2008; PackageVersion: revA, Mar-2004; PackageReference: SQA40B; Publisher: Altium Limited; PackageDescription: LLP, Quad, 6 x 6 x 0.8mm, 40 Lead, Small DAP, 0.5mm Pitch, No Pullback; Supplier 1: Farnell; Supplier Part Number 1: 1602447; RoHS: Y; PinCount: 40; ComponentLink1Description: DP83848T Datasheet; ComponentLink1URL: http://www.national.com/ds/DP/DP83848T.pdf; ComponentLink2Description: DP83848T Web Page; ComponentLink2URL: http://www.national.com/pf/DP/DP83848T.html; ComponentLink3Description: SQA40B Package Page; ComponentLink3URL: http://www.national.com/packaging/folders/sqa40b.html
footprint SQA40B (QFN, 40-Leads, Body 6x6mm, Pitch 0.5mm, NSC Recommended)
pins: 1 IOVDD33 (power), 2 TX_CLK (out), 3 TX_EN (in), 4 TXD_0 (in), 5 TXD_1 (in), 6 TXD_2 (in), 7 TXD_3 (in), 8 RESERVED (io), 9 RESERVED (io), 10 RESERVED (io), 11 RD- (io), 12 RD+ (io), 13 AGND (power), 14 TD- (io), 15 TD+ (io), 16 PFBIN1 (in), 17 AGND (power), 18 AVDD33 (power), 19 PFBOUT (out), 20 RBIAS (in), 21 25MHz_OUT (out), 22 LED_LINK/AN0 (out), 23 RESET_N (in), 24 MDIO (io), 25 MDC (in), 26 IOVDD33 (power), 27 X2 (out), 28 X1 (in), 29 DGND (power), 30 PFBIN2 (in), 31 RX_CLK (out), 32 RX_DV/MII_MODE (out), 33 CRS/CRS_DV/LED_CFG (out), 34 RX_ER/MDIX_EN (out), 35 COL/PHYAD0 (out), 36 RXD_0/PHYAD1 (out), 37 RXD_1/PHYAD2 (out), 38 RXD_2/PHYAD3 (out), 39 RXD_3/PHYAD4 (out), 40 IOGND (power), 41 DAP

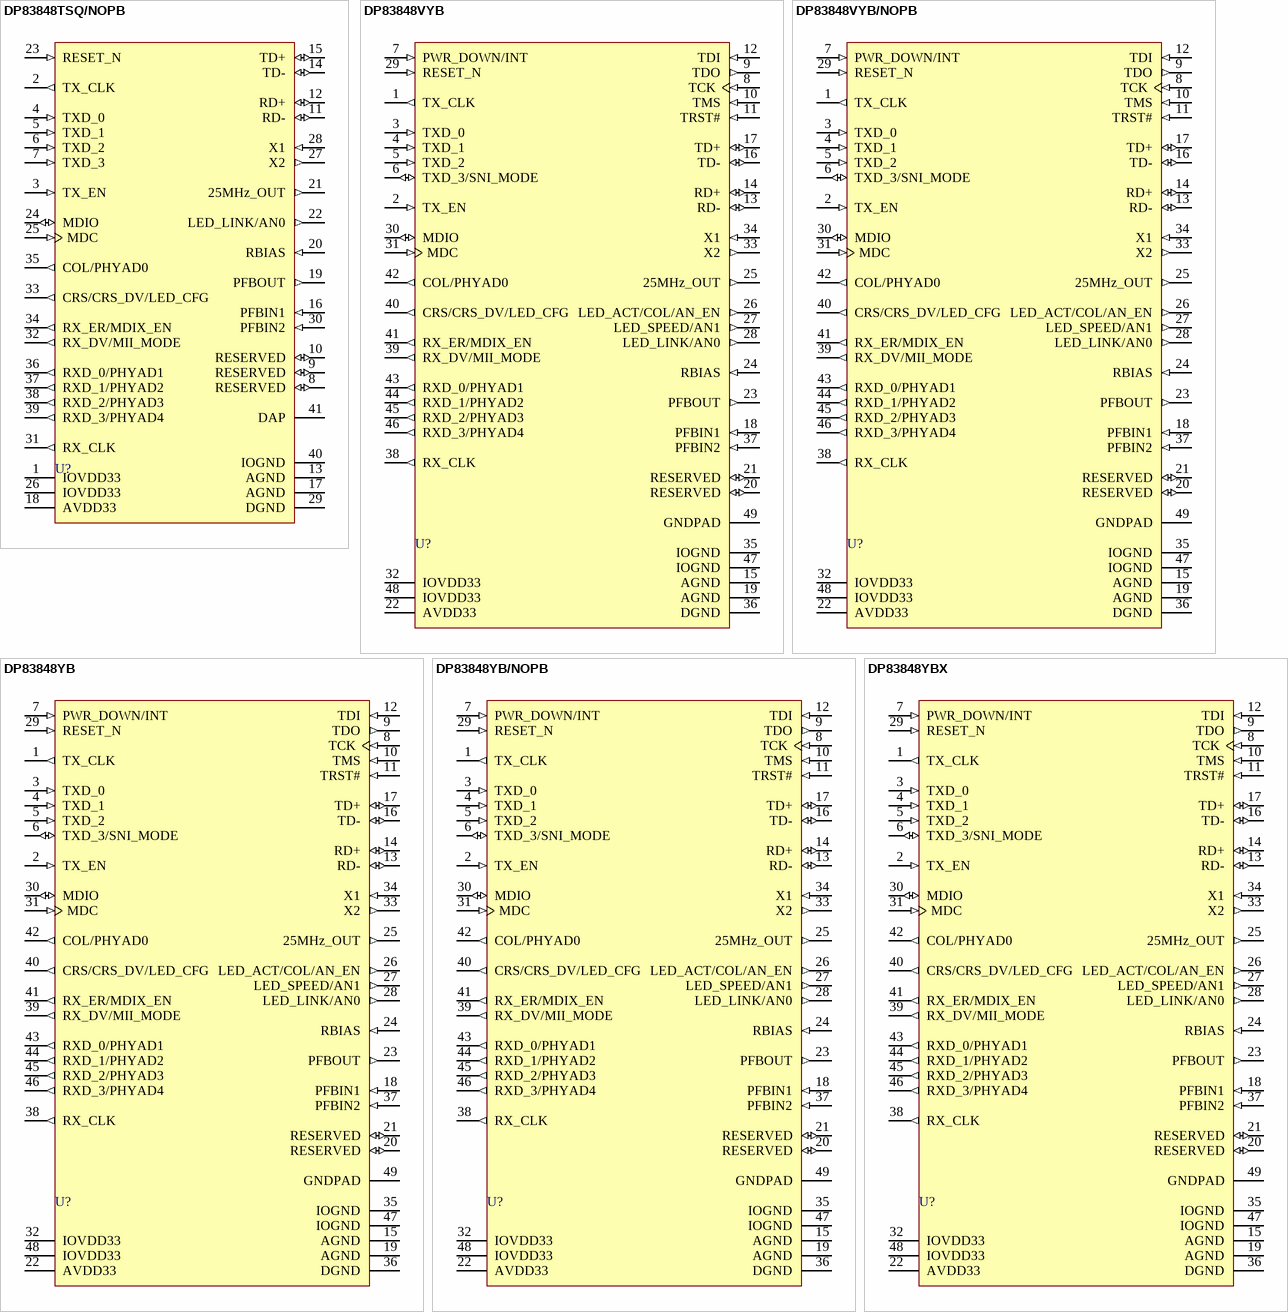
[diagram p6: symbols DP83848TSQ/NOPB to DP83848YBX]

## DP83848TSQ/NOPB
designator U?
PHYTER® Mini - Industrial Temperature Single 10/100 Ethernet Transceiver, 40-pin LLP, Pb-Free; PartNumber: DP83848TSQ/NOPB; Manufacturer: National Semiconductor; PackageTopMarking: NS*UZXYTTE#*83848TSQ; PowerWise: N; CompType: Interface IC; Published: 1-Mar-2010; DatasheetVersion: May-2008; PackageVersion: revA, Mar-2004; PackageReference: SQA40B; Publisher: Altium Limited; PackageDescription: LLP, Quad, 6 x 6 x 0.8mm, 40 Lead, Small DAP, 0.5mm Pitch, No Pullback; Supplier 1: Digi-Key; Supplier Part Number 1: DP83848TSQTR-ND; Supplier 2: Digi-Key; Supplier Part Number 2: DP83848TSQCT-ND; Supplier 3: Digi-Key; Supplier Part Number 3: DP83848TSQDKR-ND; Supplier 4: Farnell; Supplier Part Number 4: 1624560; RoHS: Y; PinCount: 40; ComponentLink1Description: DP83848T Datasheet; ComponentLink1URL: http://www.national.com/ds/DP/DP83848T.pdf; ComponentLink2Description: DP83848T Web Page; ComponentLink2URL: http://www.national.com/pf/DP/DP83848T.html; ComponentLink3Description: SQA40A Package Page; ComponentLink3URL: http://www.national.com/packaging/folders/sqa40a.html
footprint SQA40B (QFN, 40-Leads, Body 6x6mm, Pitch 0.5mm, NSC Recommended)
pins: 1 IOVDD33 (power), 2 TX_CLK (out), 3 TX_EN (in), 4 TXD_0 (in), 5 TXD_1 (in), 6 TXD_2 (in), 7 TXD_3 (in), 8 RESERVED (io), 9 RESERVED (io), 10 RESERVED (io), 11 RD- (io), 12 RD+ (io), 13 AGND (power), 14 TD- (io), 15 TD+ (io), 16 PFBIN1 (in), 17 AGND (power), 18 AVDD33 (power), 19 PFBOUT (out), 20 RBIAS (in), 21 25MHz_OUT (out), 22 LED_LINK/AN0 (out), 23 RESET_N (in), 24 MDIO (io), 25 MDC (in), 26 IOVDD33 (power), 27 X2 (out), 28 X1 (in), 29 DGND (power), 30 PFBIN2 (in), 31 RX_CLK (out), 32 RX_DV/MII_MODE (out), 33 CRS/CRS_DV/LED_CFG (out), 34 RX_ER/MDIX_EN (out), 35 COL/PHYAD0 (out), 36 RXD_0/PHYAD1 (out), 37 RXD_1/PHYAD2 (out), 38 RXD_2/PHYAD3 (out), 39 RXD_3/PHYAD4 (out), 40 IOGND (power), 41 DAP

## DP83848VYB
designator U?
PHYTER® Extended Temperature Single Port 10/100 Mb/s Ethernet Physical Layer Transceiver, 48-pin LQFP-EP; PartNumber: DP83848VYB; Manufacturer: National Semiconductor; PackageTopMarking: NSUZXYTT*DP83848*VYB; PowerWise: N; CompType: Interface IC; Published: 4-Dec-2008; DatasheetVersion: May-2008; PackageVersion: revA, May-2005; PackageReference: VXH48A; Publisher: Altium Limited; PackageDescription: LQFP, 7 x 7 x 1.4mm, 48 Lead, 0.5mm Pitch, Exposed Pad, 2.2 x 2.2mm; Supplier 1: Farnell; Supplier Part Number 1: 1602448; RoHS: Y; PinCount: 48; Code_JEDEC: MS-026-ABC; ComponentLink1Description: DP83848VYB Datasheet; ComponentLink1URL: http://www.national.com/ds/DP/DP83848VYB.pdf; ComponentLink2Description: DP83848VYB Web Page; ComponentLink2URL: http://www.national.com/pf/DP/DP83848VYB.html; ComponentLink3Description: VXH48A Package Page; ComponentLink3URL: http://www.national.com/packaging/folders/vxh48a.html
footprint VXH48A_N (Thin QFP, 48-Leads, Body 7x7mm, Pitch 0.5mm, Exposed Pad, IPC Medium Density)
footprint VXH48A_L (Thin QFP, 48-Leads, Body 7x7mm, Pitch 0.5mm, Exposed Pad, IPC High Density)
footprint VXH48A_M (Thin QFP, 48-Leads, Body 7x7mm, Pitch 0.5mm, Exposed Pad, IPC Low Density)
pins: 1 TX_CLK (out), 2 TX_EN (in), 3 TXD_0 (in), 4 TXD_1 (in), 5 TXD_2 (in), 6 TXD_3/SNI_MODE (io), 7 PWR_DOWN/INT (in), 8 TCK (in), 9 TDO (out), 10 TMS (in), 11 TRST# (in), 12 TDI (in), 13 RD- (io), 14 RD+ (io), 15 AGND (power), 16 TD- (io), 17 TD+ (io), 18 PFBIN1 (in), 19 AGND (power), 20 RESERVED (io), 21 RESERVED (io), 22 AVDD33 (power), 23 PFBOUT (out), 24 RBIAS (in), 25 25MHz_OUT (out), 26 LED_ACT/COL/AN_EN (out), 27 LED_SPEED/AN1 (out), 28 LED_LINK/AN0 (out), 29 RESET_N (in), 30 MDIO (io), 31 MDC (in), 32 IOVDD33 (power), 33 X2 (out), 34 X1 (in), 35 IOGND (power), 36 DGND (power), 37 PFBIN2 (in), 38 RX_CLK (out), 39 RX_DV/MII_MODE (out), 40 CRS/CRS_DV/LED_CFG (out), 41 RX_ER/MDIX_EN (out), 42 COL/PHYAD0 (out), 43 RXD_0/PHYAD1 (out), 44 RXD_1/PHYAD2 (out), 45 RXD_2/PHYAD3 (out), 46 RXD_3/PHYAD4 (out), 47 IOGND (power), 48 IOVDD33 (power), 49 GNDPAD (power)

## DP83848VYB/NOPB
designator U?
PHYTER® Extended Temperature Single Port 10/100 Mb/s Ethernet Physical Layer Transceiver, 48-pin LQFP-EP, Pb-Free; PartNumber: DP83848VYB/NOPB; Manufacturer: National Semiconductor; PackageTopMarking: NSUZXYTT*DP83848*VYB; PowerWise: N; CompType: Interface IC; Published: 1-Mar-2010; DatasheetVersion: May-2008; PackageVersion: revA, May-2005; PackageReference: VXH48A; Publisher: Altium Limited; PackageDescription: LQFP, 7 x 7 x 1.4mm, 48 Lead, 0.5mm Pitch, Exposed Pad, 2.2 x 2.2mm; Supplier 1: Digi-Key; Supplier Part Number 1: DP83848VYB-ND; RoHS: Y; PinCount: 48; Code_JEDEC: MS-026-ABC; ComponentLink1Description: DP83848VYB Datasheet; ComponentLink1URL: http://www.national.com/ds/DP/DP83848VYB.pdf; ComponentLink2Description: DP83848VYB Web Page; ComponentLink2URL: http://www.national.com/pf/DP/DP83848VYB.html; ComponentLink3Description: VXH48A Package Page; ComponentLink3URL: http://www.national.com/packaging/folders/vxh48a.html
footprint VXH48A_N (Thin QFP, 48-Leads, Body 7x7mm, Pitch 0.5mm, Exposed Pad, IPC Medium Density)
footprint VXH48A_L (Thin QFP, 48-Leads, Body 7x7mm, Pitch 0.5mm, Exposed Pad, IPC High Density)
footprint VXH48A_M (Thin QFP, 48-Leads, Body 7x7mm, Pitch 0.5mm, Exposed Pad, IPC Low Density)
pins: 1 TX_CLK (out), 2 TX_EN (in), 3 TXD_0 (in), 4 TXD_1 (in), 5 TXD_2 (in), 6 TXD_3/SNI_MODE (io), 7 PWR_DOWN/INT (in), 8 TCK (in), 9 TDO (out), 10 TMS (in), 11 TRST# (in), 12 TDI (in), 13 RD- (io), 14 RD+ (io), 15 AGND (power), 16 TD- (io), 17 TD+ (io), 18 PFBIN1 (in), 19 AGND (power), 20 RESERVED (io), 21 RESERVED (io), 22 AVDD33 (power), 23 PFBOUT (out), 24 RBIAS (in), 25 25MHz_OUT (out), 26 LED_ACT/COL/AN_EN (out), 27 LED_SPEED/AN1 (out), 28 LED_LINK/AN0 (out), 29 RESET_N (in), 30 MDIO (io), 31 MDC (in), 32 IOVDD33 (power), 33 X2 (out), 34 X1 (in), 35 IOGND (power), 36 DGND (power), 37 PFBIN2 (in), 38 RX_CLK (out), 39 RX_DV/MII_MODE (out), 40 CRS/CRS_DV/LED_CFG (out), 41 RX_ER/MDIX_EN (out), 42 COL/PHYAD0 (out), 43 RXD_0/PHYAD1 (out), 44 RXD_1/PHYAD2 (out), 45 RXD_2/PHYAD3 (out), 46 RXD_3/PHYAD4 (out), 47 IOGND (power), 48 IOVDD33 (power), 49 GNDPAD (power)

## DP83848YB
designator U?
PHYTER® Extreme Temperature Single Port 10/100 Mb/s Ethernet Physical Layer Transceiver, 48-pin LQFP-EP; PartNumber: DP83848YB; Manufacturer: National Semiconductor; PackageTopMarking: NSUZXYTT*DP83848YB; PowerWise: N; CompType: Interface IC; Published: 4-Dec-2008; DatasheetVersion: May-2008; PackageVersion: revA, May-2005; PackageReference: VXH48A; Publisher: Altium Limited; PackageDescription: LQFP, 7 x 7 x 1.4mm, 48 Lead, 0.5mm Pitch, Exposed Pad, 2.2 x 2.2mm; RoHS: N; PinCount: 48; Code_JEDEC: MS-026-ABC; ComponentLink1Description: DP83848YB Datasheet; ComponentLink1URL: http://www.national.com/ds/DP/DP83848YB.pdf; ComponentLink2Description: DP83848YB Web Page; ComponentLink2URL: http://www.national.com/pf/DP/DP83848YB.html; ComponentLink3Description: VXH48A Package Page; ComponentLink3URL: http://www.national.com/packaging/folders/vxh48a.html
footprint VXH48A_N (Thin QFP, 48-Leads, Body 7x7mm, Pitch 0.5mm, Exposed Pad, IPC Medium Density)
footprint VXH48A_L (Thin QFP, 48-Leads, Body 7x7mm, Pitch 0.5mm, Exposed Pad, IPC High Density)
footprint VXH48A_M (Thin QFP, 48-Leads, Body 7x7mm, Pitch 0.5mm, Exposed Pad, IPC Low Density)
pins: 1 TX_CLK (out), 2 TX_EN (in), 3 TXD_0 (in), 4 TXD_1 (in), 5 TXD_2 (in), 6 TXD_3/SNI_MODE (io), 7 PWR_DOWN/INT (in), 8 TCK (in), 9 TDO (out), 10 TMS (in), 11 TRST# (in), 12 TDI (in), 13 RD- (io), 14 RD+ (io), 15 AGND (power), 16 TD- (io), 17 TD+ (io), 18 PFBIN1 (in), 19 AGND (power), 20 RESERVED (io), 21 RESERVED (io), 22 AVDD33 (power), 23 PFBOUT (out), 24 RBIAS (in), 25 25MHz_OUT (out), 26 LED_ACT/COL/AN_EN (out), 27 LED_SPEED/AN1 (out), 28 LED_LINK/AN0 (out), 29 RESET_N (in), 30 MDIO (io), 31 MDC (in), 32 IOVDD33 (power), 33 X2 (out), 34 X1 (in), 35 IOGND (power), 36 DGND (power), 37 PFBIN2 (in), 38 RX_CLK (out), 39 RX_DV/MII_MODE (out), 40 CRS/CRS_DV/LED_CFG (out), 41 RX_ER/MDIX_EN (out), 42 COL/PHYAD0 (out), 43 RXD_0/PHYAD1 (out), 44 RXD_1/PHYAD2 (out), 45 RXD_2/PHYAD3 (out), 46 RXD_3/PHYAD4 (out), 47 IOGND (power), 48 IOVDD33 (power), 49 GNDPAD (power)

## DP83848YB/NOPB
designator U?
PHYTER® Extreme Temperature Single Port 10/100 Mb/s Ethernet Physical Layer Transceiver, 48-pin LQFP-EP, Pb-Free; PartNumber: DP83848YB/NOPB; Manufacturer: National Semiconductor; PackageTopMarking: NSUZXYTT*DP83848YB; PowerWise: N; CompType: Interface IC; Published: 1-Mar-2010; DatasheetVersion: May-2008; PackageVersion: revA, May-2005; PackageReference: VXH48A; Publisher: Altium Limited; PackageDescription: LQFP, 7 x 7 x 1.4mm, 48 Lead, 0.5mm Pitch, Exposed Pad, 2.2 x 2.2mm; Supplier 1: Digi-Key; Supplier Part Number 1: DP83848YB-ND; Supplier 2: Digi-Key; Supplier Part Number 2: DP83848YBTR-ND; Supplier 3: Farnell; Supplier Part Number 3: 1694622; RoHS: Y; PinCount: 48; Code_JEDEC: MS-026-ABC; ComponentLink1Description: DP83848YB Datasheet; ComponentLink1URL: http://www.national.com/ds/DP/DP83848YB.pdf; ComponentLink2Description: DP83848YB Web Page; ComponentLink2URL: http://www.national.com/pf/DP/DP83848YB.html; ComponentLink3Description: VXH48A Package Page; ComponentLink3URL: http://www.national.com/packaging/folders/vxh48a.html
footprint VXH48A_N (Thin QFP, 48-Leads, Body 7x7mm, Pitch 0.5mm, Exposed Pad, IPC Medium Density)
footprint VXH48A_L (Thin QFP, 48-Leads, Body 7x7mm, Pitch 0.5mm, Exposed Pad, IPC High Density)
footprint VXH48A_M (Thin QFP, 48-Leads, Body 7x7mm, Pitch 0.5mm, Exposed Pad, IPC Low Density)
pins: 1 TX_CLK (out), 2 TX_EN (in), 3 TXD_0 (in), 4 TXD_1 (in), 5 TXD_2 (in), 6 TXD_3/SNI_MODE (io), 7 PWR_DOWN/INT (in), 8 TCK (in), 9 TDO (out), 10 TMS (in), 11 TRST# (in), 12 TDI (in), 13 RD- (io), 14 RD+ (io), 15 AGND (power), 16 TD- (io), 17 TD+ (io), 18 PFBIN1 (in), 19 AGND (power), 20 RESERVED (io), 21 RESERVED (io), 22 AVDD33 (power), 23 PFBOUT (out), 24 RBIAS (in), 25 25MHz_OUT (out), 26 LED_ACT/COL/AN_EN (out), 27 LED_SPEED/AN1 (out), 28 LED_LINK/AN0 (out), 29 RESET_N (in), 30 MDIO (io), 31 MDC (in), 32 IOVDD33 (power), 33 X2 (out), 34 X1 (in), 35 IOGND (power), 36 DGND (power), 37 PFBIN2 (in), 38 RX_CLK (out), 39 RX_DV/MII_MODE (out), 40 CRS/CRS_DV/LED_CFG (out), 41 RX_ER/MDIX_EN (out), 42 COL/PHYAD0 (out), 43 RXD_0/PHYAD1 (out), 44 RXD_1/PHYAD2 (out), 45 RXD_2/PHYAD3 (out), 46 RXD_3/PHYAD4 (out), 47 IOGND (power), 48 IOVDD33 (power), 49 GNDPAD (power)

## DP83848YBX
designator U?
PHYTER® Extreme Temperature Single Port 10/100 Mb/s Ethernet Physical Layer Transceiver, 48-pin LQFP-EP; PartNumber: DP83848YBX; Manufacturer: National Semiconductor; PackageTopMarking: NSUZXYTT*DP83848YB; PowerWise: N; CompType: Interface IC; Published: 1-Mar-2010; DatasheetVersion: May-2008; PackageVersion: revA, May-2005; PackageReference: VXH48A; Publisher: Altium Limited; PackageDescription: LQFP, 7 x 7 x 1.4mm, 48 Lead, 0.5mm Pitch, Exposed Pad, 2.2 x 2.2mm; RoHS: N; PinCount: 48; Code_JEDEC: MS-026-ABC; ComponentLink1Description: DP83848YB Datasheet; ComponentLink1URL: http://www.national.com/ds/DP/DP83848YB.pdf; ComponentLink2Description: DP83848YB Web Page; ComponentLink2URL: http://www.national.com/pf/DP/DP83848YB.html; ComponentLink3Description: VXH48A Package Page; ComponentLink3URL: http://www.national.com/packaging/folders/vxh48a.html
footprint VXH48A_N (Thin QFP, 48-Leads, Body 7x7mm, Pitch 0.5mm, Exposed Pad, IPC Medium Density)
footprint VXH48A_L (Thin QFP, 48-Leads, Body 7x7mm, Pitch 0.5mm, Exposed Pad, IPC High Density)
footprint VXH48A_M (Thin QFP, 48-Leads, Body 7x7mm, Pitch 0.5mm, Exposed Pad, IPC Low Density)
pins: 1 TX_CLK (out), 2 TX_EN (in), 3 TXD_0 (in), 4 TXD_1 (in), 5 TXD_2 (in), 6 TXD_3/SNI_MODE (io), 7 PWR_DOWN/INT (in), 8 TCK (in), 9 TDO (out), 10 TMS (in), 11 TRST# (in), 12 TDI (in), 13 RD- (io), 14 RD+ (io), 15 AGND (power), 16 TD- (io), 17 TD+ (io), 18 PFBIN1 (in), 19 AGND (power), 20 RESERVED (io), 21 RESERVED (io), 22 AVDD33 (power), 23 PFBOUT (out), 24 RBIAS (in), 25 25MHz_OUT (out), 26 LED_ACT/COL/AN_EN (out), 27 LED_SPEED/AN1 (out), 28 LED_LINK/AN0 (out), 29 RESET_N (in), 30 MDIO (io), 31 MDC (in), 32 IOVDD33 (power), 33 X2 (out), 34 X1 (in), 35 IOGND (power), 36 DGND (power), 37 PFBIN2 (in), 38 RX_CLK (out), 39 RX_DV/MII_MODE (out), 40 CRS/CRS_DV/LED_CFG (out), 41 RX_ER/MDIX_EN (out), 42 COL/PHYAD0 (out), 43 RXD_0/PHYAD1 (out), 44 RXD_1/PHYAD2 (out), 45 RXD_2/PHYAD3 (out), 46 RXD_3/PHYAD4 (out), 47 IOGND (power), 48 IOVDD33 (power), 49 GNDPAD (power)

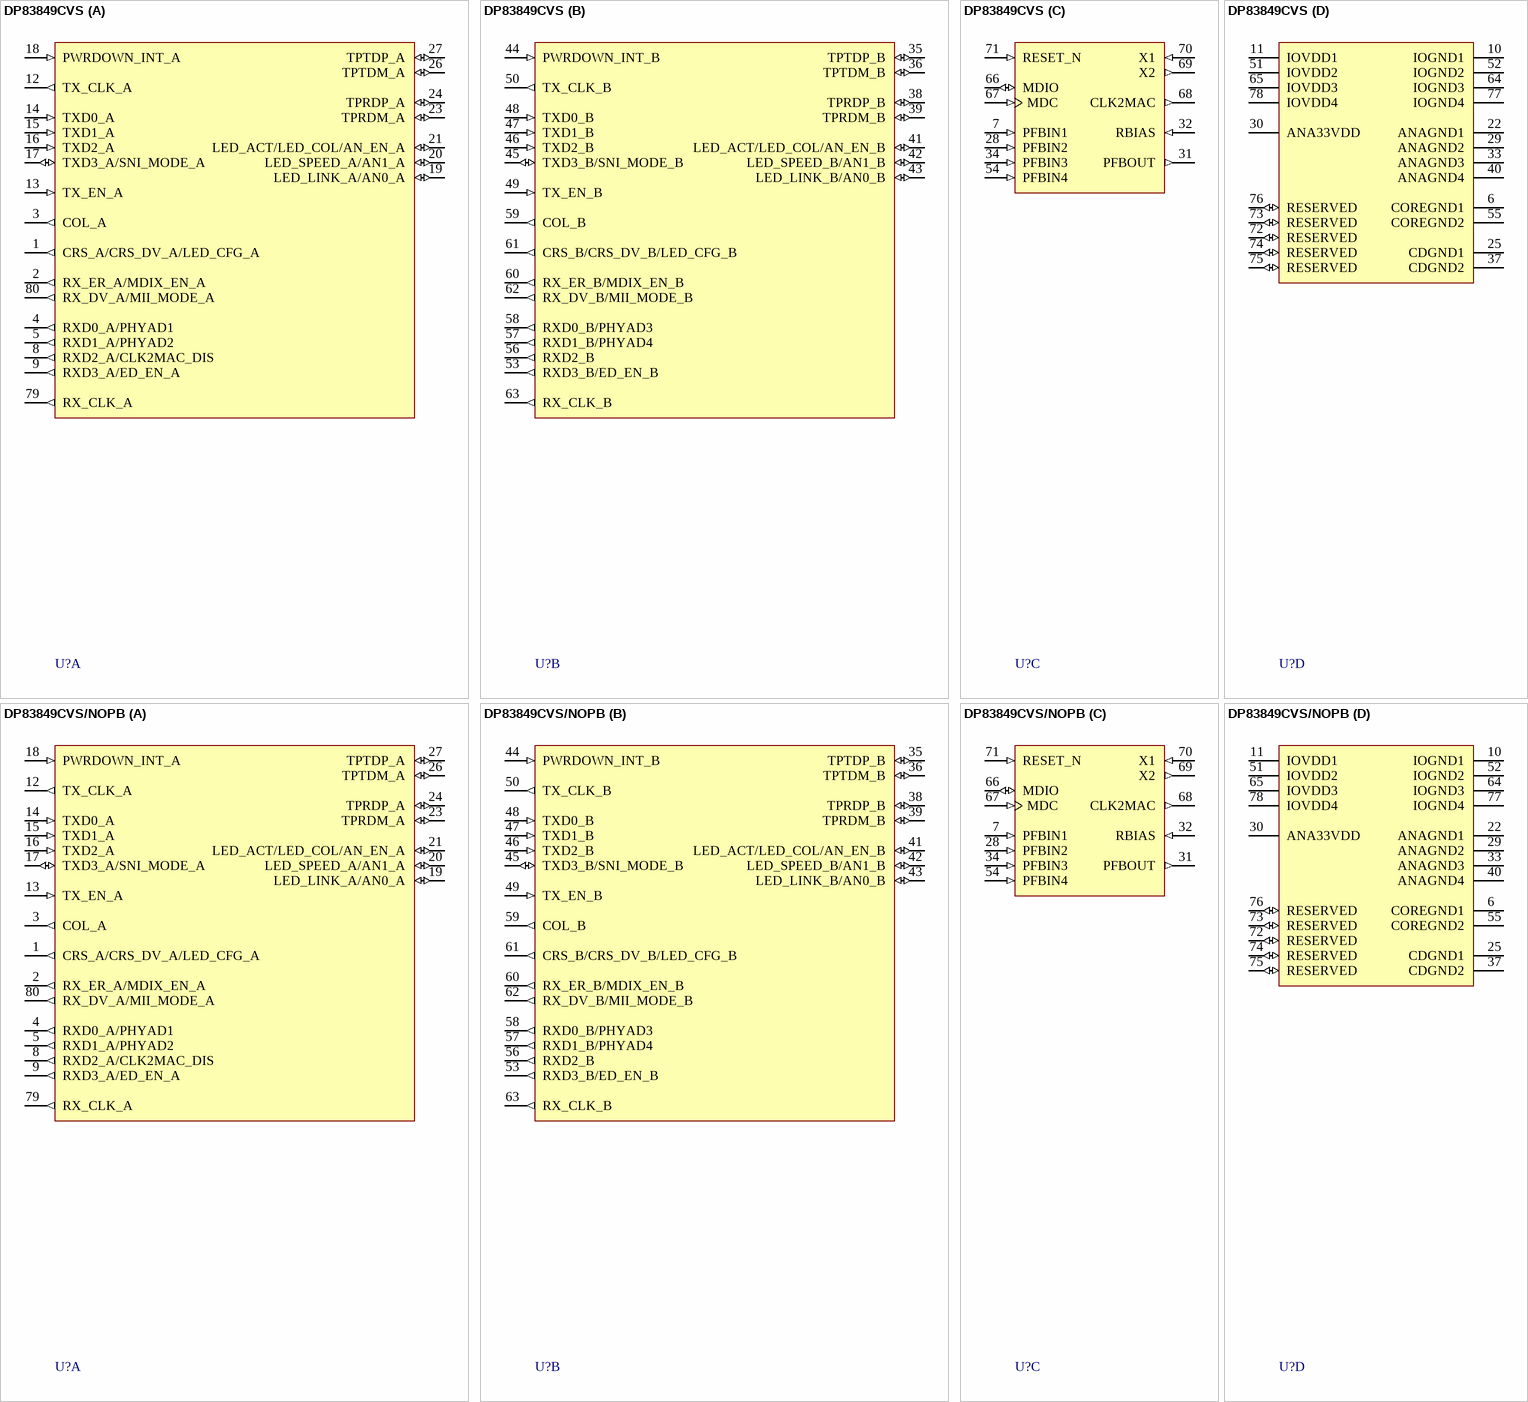
[diagram p7: symbols DP83849CVS to DP83849CVS/NOPB]

## DP83849CVS
designator U?
PHYTER® DUAL Commercial Temperature Dual Port 10/100 Mb/s Ethernet Physical Layer Transceiver, 80-pin TQFP; PartNumber: DP83849CVS; Manufacturer: National Semiconductor; PackageTopMarking: NSUZXYTT*DP83849CVS; PowerWise: N; CompType: Interface IC; Published: 4-Dec-2008; DatasheetVersion: May-2008; PackageVersion: revB, Dec-1999; PackageReference: VHB80A; Publisher: Altium Limited; PackageDescription: LQFP, Jedec, Metric, 12 x 12 x 1.0mm, 80 Lead; Supplier 1: Farnell; Supplier Part Number 1: 1271400; RoHS: N; PinCount: 80; Code_JEDEC: MS-026-ADD; ComponentLink1Description: DP83849C Datasheet; ComponentLink1URL: http://www.national.com/ds/DP/DP83849C.pdf; ComponentLink2Description: DP83849C Web Page; ComponentLink2URL: http://www.national.com/pf/DP/DP83849C.html; ComponentLink3Description: VHB80A Package Page; ComponentLink3URL: http://www.national.com/packaging/folders/vhb80a.html
footprint VHB80A_N (Thin QFP, 80-Leads, Body 12x12mm, Pitch 0.5mm, IPC Medium Density)
footprint VHB80A_L (Thin QFP, 80-Leads, Body 12x12mm, Pitch 0.5mm, IPC High Density)
footprint VHB80A_M (Thin QFP, 80-Leads, Body 12x12mm, Pitch 0.5mm, IPC Low Density)
part A pins: 1 CRS_A/CRS_DV_A/LED_CFG_A (out), 2 RX_ER_A/MDIX_EN_A (out), 3 COL_A (out), 4 RXD0_A/PHYAD1 (out), 5 RXD1_A/PHYAD2 (out), 8 RXD2_A/CLK2MAC_DIS (out), 9 RXD3_A/ED_EN_A (out), 12 TX_CLK_A (out), 13 TX_EN_A (in), 14 TXD0_A (in), 15 TXD1_A (in), 16 TXD2_A (in), 17 TXD3_A/SNI_MODE_A (io), 18 PWRDOWN_INT_A (in), 19 LED_LINK_A/AN0_A (io), 20 LED_SPEED_A/AN1_A (io), 21 LED_ACT/LED_COL/AN_EN_A (io), 23 TPRDM_A (io), 24 TPRDP_A (io), 26 TPTDM_A (io), 27 TPTDP_A (io), 79 RX_CLK_A (out), 80 RX_DV_A/MII_MODE_A (out)
part B pins: 35 TPTDP_B (io), 36 TPTDM_B (io), 38 TPRDP_B (io), 39 TPRDM_B (io), 41 LED_ACT/LED_COL/AN_EN_B (io), 42 LED_SPEED_B/AN1_B (io), 43 LED_LINK_B/AN0_B (io), 44 PWRDOWN_INT_B (in), 45 TXD3_B/SNI_MODE_B (io), 46 TXD2_B (in), 47 TXD1_B (in), 48 TXD0_B (in), 49 TX_EN_B (in), 50 TX_CLK_B (out), 53 RXD3_B/ED_EN_B (out), 56 RXD2_B (out), 57 RXD1_B/PHYAD4 (out), 58 RXD0_B/PHYAD3 (out), 59 COL_B (out), 60 RX_ER_B/MDIX_EN_B (out), 61 CRS_B/CRS_DV_B/LED_CFG_B (out), 62 RX_DV_B/MII_MODE_B (out), 63 RX_CLK_B (out)
part C pins: 7 PFBIN1 (in), 28 PFBIN2 (in), 31 PFBOUT (out), 32 RBIAS (in), 34 PFBIN3 (in), 54 PFBIN4 (in), 66 MDIO (io), 67 MDC (in), 68 CLK2MAC (out), 69 X2 (out), 70 X1 (in), 71 RESET_N (in)
part D pins: 6 COREGND1 (power), 10 IOGND1 (power), 11 IOVDD1 (power), 22 ANAGND1 (power), 25 CDGND1 (power), 29 ANAGND2 (power), 30 ANA33VDD (power), 33 ANAGND3 (power), 37 CDGND2 (power), 40 ANAGND4 (power), 51 IOVDD2 (power), 52 IOGND2 (power), 55 COREGND2 (power), 64 IOGND3 (power), 65 IOVDD3 (power), 72 RESERVED (io), 73 RESERVED (io), 74 RESERVED (io), 75 RESERVED (io), 76 RESERVED (io), 77 IOGND4 (power), 78 IOVDD4 (power)